# Altium schematic symbol library 5413879-2.SchLib: 1 symbol
Pins are listed as number, name and electrical type; pins without a type are passive.

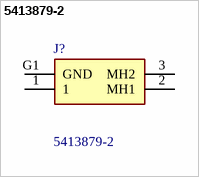
[diagram p0: symbol 5413879-2]

## 5413879-2
designator J?
BNC RF Interface, Jack, 50 ohm, Bayonet, 4 GHz Operating Frequency, Cable-to-Board, 1 Position, Printed Circuit Board, Board Mount / Panel Mount; Manufacturer_Name: TE Connectivity; Geometry.Height: 12.95mm; Mouser Part Number: 571-5413879-2; Mouser Price/Stock: https://www.mouser.co.uk/ProductDetail/TE-Connectivity/5413879-2?qs=dJbzCyn%252BCFbDLsMjA0NFtQ%3D%3D; Manufacturer_Part_Number: 5413879-2; Datasheet Link: https://www.te.com/commerce/DocumentDelivery/DDEController?Action=srchrtrv&DocNm=5413879&DocType=Customer%20Drawing&DocLang=English&PartCntxt=5413879-2&DocFormat=pdf
footprint 54138792
pins: 1, 2 MH1, 3 MH2, G1 GND